# EAGLE library part MC33340 (library DH_servis)
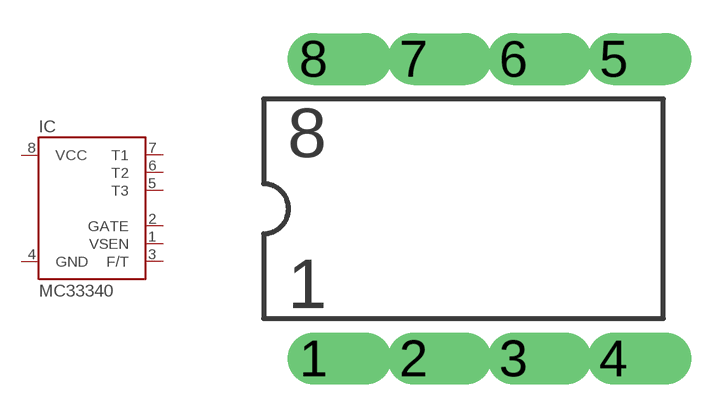
[diagram p1: symbol with the pads of DIL08; footprint DIL08]

Designator prefix IC

## MC33340*  [DIL08]
1  VSEN  nc
2  GATE  nc
3  F/T  nc
4  GND  pwr
5  T3  nc
6  T2  nc
7  T1  nc
8  VCC  pwr

## Footprint DIL08 (pad centres in mm)
Dual Inline Package
drill 0.813 offset: 1 -3.81,-3.81; 2 -1.27,-3.81; 3 1.27,-3.81; 4 3.81,-3.81; 5 3.81,3.81; 6 1.27,3.81; 7 -1.27,3.81; 8 -3.81,3.81